# Altium footprint library LIS3DHTR.PcbLib: 1 footprints
Each footprint in its own frame and in the unit in brackets; x right, y up, seen from the top. Pads: shape width x height; smd on the part's side, far side on the other; paste and mask are expansions set on the pad; w line width, h text height; cw(c..) or ccw(c..) is an arc to the next point about the centre after c.
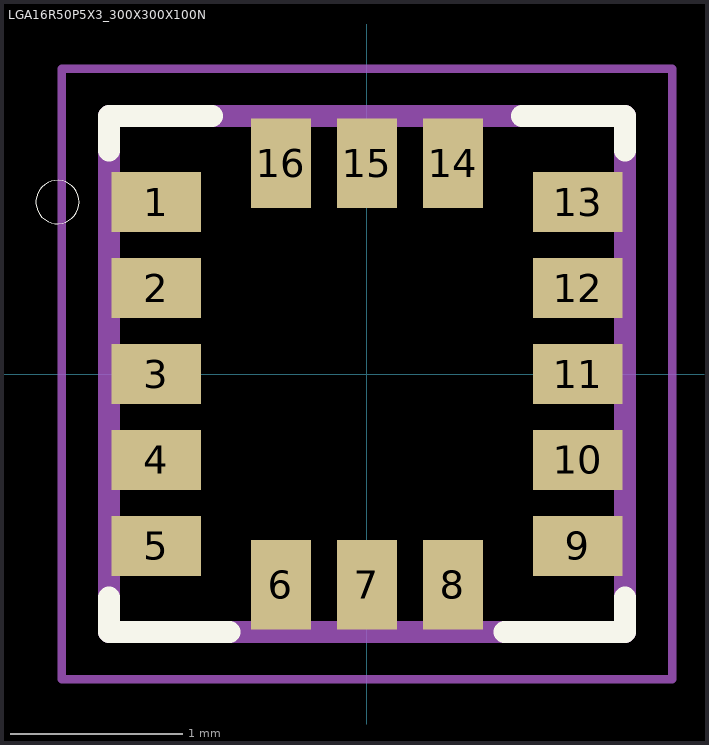
[diagram p0: the footprint, top view; thin cyan lines are the x and y axes]

## LGA16R50P5X3_300X300X100N [mm]
pads (16):
  rect 0.52x0.35 smd: 1(-1.225,1) 2(-1.225,0.5) 3(-1.225,0) 4(-1.225,-0.5) 5(-1.225,-1) 9(1.225,-1) 10(1.225,-0.5) 11(1.225,0) 12(1.225,0.5) 13(1.225,1)
  rect 0.35x0.52 smd: 6(-0.5,-1.225) 7(0,-1.225) 8(0.5,-1.225) 14(0.5,1.225) 15(0,1.225) 16(-0.5,1.225)
Top Overlay:
  circle w0: c-1.8,1 r0.126
  lines w0.127: -1.5,-1.3 -1.5,-1.5 -0.8,-1.5 ; -1.5,1.3 -1.5,1.5 -0.9,1.5 ; 0.8,-1.5 1.5,-1.5 1.5,-1.3 ; 0.9,1.5 1.5,1.5 1.5,1.3
Top Solder:
  region: -0.28,1.53 -0.28,0.92 -0.72,0.92 -0.72,1.53
  region: 0.219,1.531 0.219,0.921 -0.219,0.921 -0.219,1.531
  region: 0.72,1.53 0.72,0.92 0.28,0.92 0.28,1.53
  region: -0.72,-1.53 -0.72,-0.92 -0.28,-0.92 -0.28,-1.53
  region: -0.222,-1.532 -0.222,-0.921 0.221,-0.921 0.221,-1.532
  region: 0.279,-1.531 0.279,-0.921 0.721,-0.921 0.721,-1.531
  region: 1.53,-1.22 0.92,-1.22 0.92,-0.78 1.53,-0.78
  region: 1.53,0.781 0.921,0.781 0.921,1.22 1.53,1.22
  region: 1.53,0.28 0.92,0.28 0.92,0.72 1.53,0.72
  region: 1.53,-0.22 0.92,-0.22 0.92,0.22 1.53,0.22
  region: 1.53,-0.721 0.921,-0.721 0.921,-0.28 1.53,-0.28
  region: -1.532,-0.78 -0.92,-0.78 -0.92,-1.222 -1.532,-1.222
  region: -1.53,-0.28 -0.92,-0.28 -0.92,-0.72 -1.53,-0.72
  region: -1.532,0.22 -0.92,0.22 -0.92,-0.22 -1.532,-0.22
  region: -1.531,0.72 -0.92,0.72 -0.92,0.28 -1.531,0.28
  region: -1.531,1.22 -0.92,1.22 -0.92,0.781 -1.531,0.781
Mechanical 1:
  lines w0.05: -1.775,-1.775 1.775,-1.775 1.775,1.775 -1.775,1.775 -1.775,-1.775
  lines w0.127: -1.5,-1.5 1.5,-1.5 1.5,1.5 -1.5,1.5 -1.5,-1.5